# EAGLE library part DIN41612-F48-MALE (library Traficon)
Male Eurocard connector PCB mounting 90° Manufacturer: AMP Productnumber: 2-164045-8
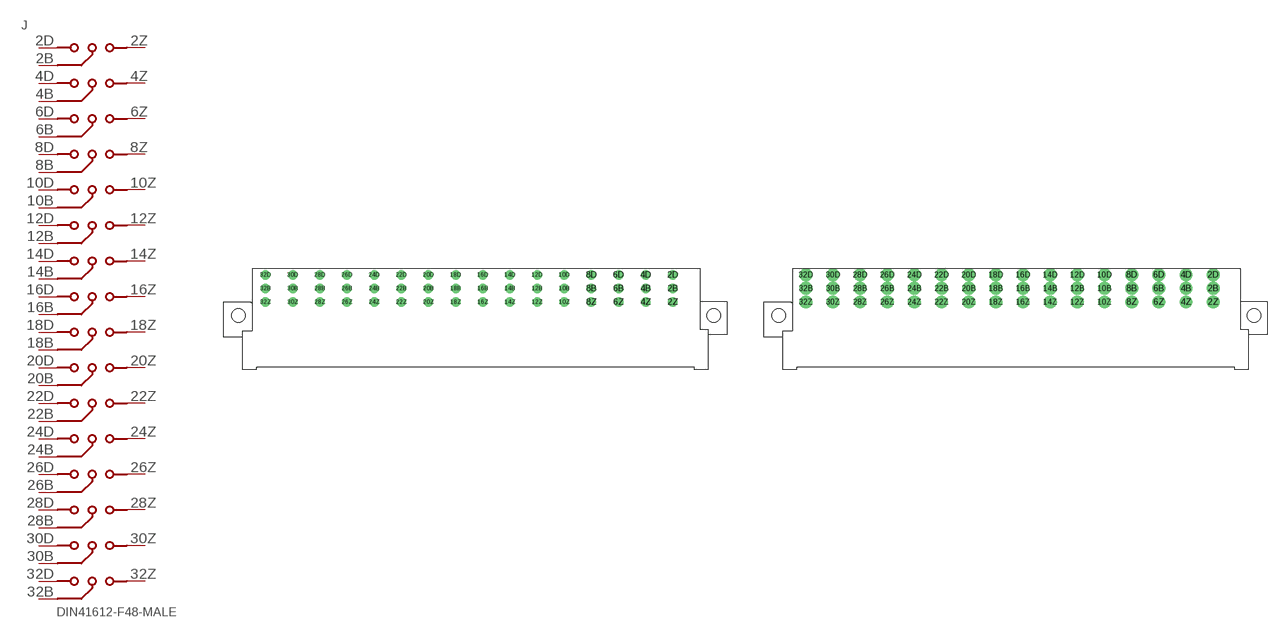
[diagram p9: symbol with the pads of DIN41612-F48-MALE-90°; footprints DIN41612-F48-MALE-90°, DIN41612-F48-MALE-90°(LARGER-HOLES)]

Designator prefix J

## DIN41612-F48-MALE  [DIN41612-F48-MALE-90°]
2B  2B
2D  2D
2Z  2Z
4B  4B
4D  4D
4Z  4Z
6B  6B
6D  6D
6Z  6Z
8B  8B
8D  8D
8Z  8Z
10B  10B
10D  10D
10Z  10Z
12B  12B
12D  12D
12Z  12Z
14B  14B
14D  14D
14Z  14Z
16B  16B
16D  16D
16Z  16Z
18B  18B
18D  18D
18Z  18Z
20B  20B
20D  20D
20Z  20Z
22B  22B
22D  22D
22Z  22Z
24B  24B
24D  24D
24Z  24Z
26B  26B
26D  26D
26Z  26Z
28B  28B
28D  28D
28Z  28Z
30B  30B
30D  30D
30Z  30Z
32B  32B
32D  32D
32Z  32Z

## DIN41612-F48-MALELARGERHOLES  [DIN41612-F48-MALE-90°(LARGER-HOLES)]
Pads as for DIN41612-F48-MALE-90°

## Footprint DIN41612-F48-MALE-90° (pad centres in mm)
drill 1.016 pad 1.778 round: 2B 38.1,0; 2D 38.1,2.54; 2Z 38.1,-2.54; 4B 33.02,0; 4D 33.02,2.54; 4Z 33.02,-2.54; 6B 27.94,0; 6D 27.94,2.54; 6Z 27.94,-2.54; 8B 22.86,0; 8D 22.86,2.54; 8Z 22.86,-2.54; 10B 17.78,0; 10D 17.78,2.54; 10Z 17.78,-2.54; 12B 12.7,0; 12D 12.7,2.54; 12Z 12.7,-2.54; 14B 7.62,0; 14D 7.62,2.54; 14Z 7.62,-2.54; 16B 2.54,0; 16D 2.54,2.54; 16Z 2.54,-2.54; 18B -2.54,0; 18D -2.54,2.54; 18Z -2.54,-2.54; 20B -7.62,0; 20D -7.62,2.54; 20Z -7.62,-2.54; 22B -12.7,0; 22D -12.7,2.54; 22Z -12.7,-2.54; 24B -17.78,0; 24D -17.78,2.54; 24Z -17.78,-2.54; 26B -22.86,0; 26D -22.86,2.54; 26Z -22.86,-2.54; 28B -27.94,0; 28D -27.94,2.54; 28Z -27.94,-2.54; 30B -33.02,0; 30D -33.02,2.54; 30Z -33.02,-2.54; 32B -38.1,0; 32D -38.1,2.54; 32Z -38.1,-2.54
hole 2.54 at -43.18,-5.08
hole 2.54 at 45.72,-5.08

## Footprint DIN41612-F48-MALE-90°(LARGER-HOLES) (pad centres in mm)
drill 1.6 round: 2B 38.1,0; 2D 38.1,2.54; 2Z 38.1,-2.54; 4B 33.02,0; 4D 33.02,2.54; 4Z 33.02,-2.54; 6B 27.94,0; 6D 27.94,2.54; 6Z 27.94,-2.54; 8B 22.86,0; 8D 22.86,2.54; 8Z 22.86,-2.54; 10B 17.78,0; 10D 17.78,2.54; 10Z 17.78,-2.54; 12B 12.7,0; 12D 12.7,2.54; 12Z 12.7,-2.54; 14B 7.62,0; 14D 7.62,2.54; 14Z 7.62,-2.54; 16B 2.54,0; 16D 2.54,2.54; 16Z 2.54,-2.54; 18B -2.54,0; 18D -2.54,2.54; 18Z -2.54,-2.54; 20B -7.62,0; 20D -7.62,2.54; 20Z -7.62,-2.54; 22B -12.7,0; 22D -12.7,2.54; 22Z -12.7,-2.54; 24B -17.78,0; 24D -17.78,2.54; 24Z -17.78,-2.54; 26B -22.86,0; 26D -22.86,2.54; 26Z -22.86,-2.54; 28B -27.94,0; 28D -27.94,2.54; 28Z -27.94,-2.54; 30B -33.02,0; 30D -33.02,2.54; 30Z -33.02,-2.54; 32B -38.1,0; 32D -38.1,2.54; 32Z -38.1,-2.54
hole 2.54 at -43.18,-5.08
hole 2.54 at 45.72,-5.08